# Altium footprint library HARTING SMD.PcbLib: 3 footprints
Each footprint in its own frame and in the unit in brackets; x right, y up, seen from the top. Pads: shape width x height; smd on the part's side, far side on the other; paste and mask are expansions set on the pad; w line width, h text height; cw(c..) or ccw(c..) is an arc to the next point about the centre after c.
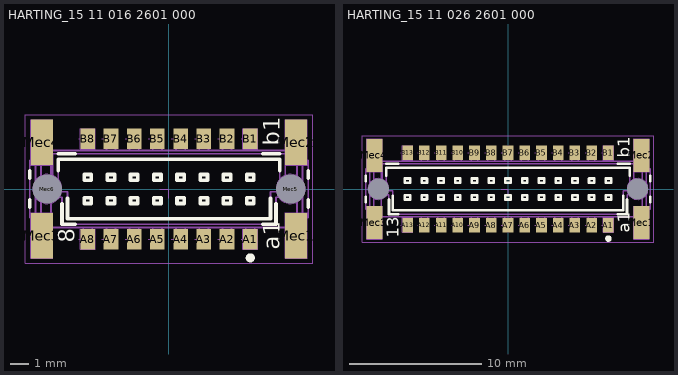
[diagram p0: the footprints below, top view; thin cyan lines are the x and y axes]

## HARTING_15 11 016 2601 000 [mm] "Har-flex Straight Male Connector, 16 Contacts, Pitch 1.27mm"
height 6.6
pads (22):
  rect 0.8x1.1 smd: A1(4.445,-2.75) A2(3.175,-2.75) A3(1.905,-2.75) A4(0.635,-2.75) A5(-0.635,-2.75) A6(-1.905,-2.75) A7(-3.175,-2.75) A8(-4.445,-2.75) B1(4.445,2.75) B2(3.175,2.75) B3(1.905,2.75) B4(0.635,2.75) B5(-0.635,2.75) B6(-1.905,2.75) B7(-3.175,2.75) B8(-4.445,2.75)
  rect 1.2x2.5 smd: Mec1(6.955,-2.55) Mec2(6.955,2.55) Mec3(-6.955,-2.55) Mec4(-6.955,2.55)
  round 1 hole 1.6 unplated mask+0.3: Mec5(6.655,0) Mec6(-6.655,0)
Top Overlay:
  circle w0.25: c4.445,-3.766 r0.125
  lines w0.2: -7.62,-1 -7.62,-0.6 ; -7.62,0.6 -7.62,1 ; -6.055,1 -6.055,1.625 6.055,1.625 6.055,1 ; -6.055,1.925 -5.145,1.925 ; -5.855,-0.8 -5.855,-1.925 -5.145,-1.925 ; -5.555,-0.5 -5.555,-1.625 5.555,-1.625 5.555,-0.5 ; 5.145,-1.925 5.855,-1.925 5.855,-0.8 ; 5.145,1.925 6.055,1.925 ; 7.62,-1 7.62,-0.6 ; 7.62,0.6 7.62,1 ; -4.645,-0.795 -4.245,-0.795 -4.245,-0.475 -4.645,-0.475 -4.645,-0.795 ; -4.645,0.475 -4.245,0.475 -4.245,0.795 -4.645,0.795 -4.645,0.475 ; -3.375,-0.795 -2.975,-0.795 -2.975,-0.475 -3.375,-0.475 -3.375,-0.795 ; -3.375,0.475 -2.975,0.475 -2.975,0.795 -3.375,0.795 -3.375,0.475 ; -2.105,-0.795 -1.705,-0.795 -1.705,-0.475 -2.105,-0.475 -2.105,-0.795 ; -2.105,0.475 -1.705,0.475 -1.705,0.795 -2.105,0.795 -2.105,0.475 ; -0.835,-0.795 -0.435,-0.795 -0.435,-0.475 -0.835,-0.475 -0.835,-0.795 ; -0.835,0.475 -0.435,0.475 -0.435,0.795 -0.835,0.795 -0.835,0.475 ; 0.435,-0.795 0.835,-0.795 0.835,-0.475 0.435,-0.475 0.435,-0.795 ; 0.435,0.475 0.835,0.475 0.835,0.795 0.435,0.795 0.435,0.475 ; 1.705,-0.795 2.105,-0.795 2.105,-0.475 1.705,-0.475 1.705,-0.795 ; 1.705,0.475 2.105,0.475 2.105,0.795 1.705,0.795 1.705,0.475 ; 2.975,-0.795 3.375,-0.795 3.375,-0.475 2.975,-0.475 2.975,-0.795 ; 2.975,0.475 3.375,0.475 3.375,0.795 2.975,0.795 2.975,0.475 ; 4.245,-0.795 4.645,-0.795 4.645,-0.475 4.245,-0.475 4.245,-0.795 ; 4.245,0.475 4.645,0.475 4.645,0.795 4.245,0.795 4.245,0.475
  text "8" at -5.15,-2.95 h0.9
  text "b1" at 6.055,2.375 h0.9
  text "a1" at 6.055,-3.325 h0.9
Mechanical 8:
  circle w0.05: c6.655,0 r0.8
  circle w0.05: c-6.655,0 r0.8
  lines w0.05: -7.455,-2.55 -6.955,-2.55 -6.955,-3.05 ; -7.455,2.55 -6.955,2.55 -6.955,2.05 ; -7.155,0 -6.655,0 -6.655,-0.5 ; -4.945,-2.75 -4.445,-2.75 -4.445,-3.25 ; -4.945,2.75 -4.445,2.75 -4.445,2.25 ; -3.675,-2.75 -3.175,-2.75 -3.175,-3.25 ; -3.675,2.75 -3.175,2.75 -3.175,2.25 ; -2.405,-2.75 -1.905,-2.75 -1.905,-3.25 ; -2.405,2.75 -1.905,2.75 -1.905,2.25 ; -1.135,-2.75 -0.635,-2.75 -0.635,-3.25 ; -1.135,2.75 -0.635,2.75 -0.635,2.25 ; -0.5,0 0,0 0,-0.5 ; 0.135,-2.75 0.635,-2.75 0.635,-3.25 ; 0.135,2.75 0.635,2.75 0.635,2.25 ; 1.405,-2.75 1.905,-2.75 1.905,-3.25 ; 1.405,2.75 1.905,2.75 1.905,2.25 ; 2.675,-2.75 3.175,-2.75 3.175,-3.25 ; 2.675,2.75 3.175,2.75 3.175,2.25 ; 3.945,-2.75 4.445,-2.75 4.445,-3.25 ; 3.945,2.75 4.445,2.75 4.445,2.25 ; 6.155,0 6.655,0 6.655,-0.5 ; 6.955,-3.05 6.955,-2.55 7.455,-2.55 ; 6.955,2.05 6.955,2.55 7.455,2.55 ; -7.555,-3.8 -6.355,-3.8 -6.355,-1.3 -7.555,-1.3 -7.555,-3.8 ; -7.555,1.3 -6.355,1.3 -6.355,3.8 -7.555,3.8 -7.555,1.3 ; -4.845,-3.3 -4.045,-3.3 -4.045,-2.2 -4.845,-2.2 -4.845,-3.3 ; -4.845,2.2 -4.045,2.2 -4.045,3.3 -4.845,3.3 -4.845,2.2 ; 4.045,-3.3 4.845,-3.3 4.845,-2.2 4.045,-2.2 4.045,-3.3 ; 4.045,2.2 4.845,2.2 4.845,3.3 4.045,3.3 4.045,2.2 ; 6.355,-3.8 7.555,-3.8 7.555,-1.3 6.355,-1.3 6.355,-3.8 ; 6.355,1.3 7.555,1.3 7.555,3.8 6.355,3.8 6.355,1.3
Mechanical 14:
  drawing of 175 lines, arcs and shapes, not listed
  text "8" at -5.15,-2.95 h0.9
  text "b1" at 6.055,2.375 h0.9
  text "a1" at 6.055,-3.325 h0.9
Mechanical 15:
  lines w0.05: -7.87,-4.05 7.87,-4.05 7.87,4.05 -7.87,4.05 -7.87,-4.05
3D body "HARTING_15 11 016 2601 000.stp": height 6.63, standoff -0.95, extent -7.62,-3.7 7.62,3.7

## HARTING_15 11 026 2601 000 [mm] "Har-flex Straight Male Connector, 26 Contacts, Pitch 1.27mm"
height 6.6
pads (32):
  rect 0.8x1.1 smd: A1(7.62,-2.75) A2(6.35,-2.75) A3(5.08,-2.75) A4(3.81,-2.75) A5(2.54,-2.75) A6(1.27,-2.75) A7(0,-2.75) A8(-1.27,-2.75) A9(-2.54,-2.75) A10(-3.81,-2.75) A11(-5.08,-2.75) A12(-6.35,-2.75) A13(-7.62,-2.75) B1(7.62,2.75) B2(6.35,2.75) B3(5.08,2.75) B4(3.81,2.75) B5(2.54,2.75) B6(1.27,2.75) B7(0,2.75) B8(-1.27,2.75) B9(-2.54,2.75) B10(-3.81,2.75) B11(-5.08,2.75) B12(-6.35,2.75) B13(-7.62,2.75)
  rect 1.2x2.5 smd: Mec1(10.13,-2.55) Mec2(10.13,2.55) Mec3(-10.13,-2.55) Mec4(-10.13,2.55)
  round 1 hole 1.6 unplated mask+0.3: Mec5(9.83,0) Mec6(-9.83,0)
Top Overlay:
  circle w0.25: c7.62,-3.766 r0.125
  lines w0.2: -10.795,-1 -10.795,-0.6 ; -10.795,0.6 -10.795,1 ; -9.23,1 -9.23,1.625 9.23,1.625 9.23,1 ; -9.23,1.925 -8.32,1.925 ; -9.03,-0.8 -9.03,-1.925 -8.32,-1.925 ; -8.73,-0.5 -8.73,-1.625 8.73,-1.625 8.73,-0.5 ; 8.32,-1.925 9.03,-1.925 9.03,-0.8 ; 8.32,1.925 9.23,1.925 ; 10.795,-1 10.795,-0.6 ; 10.795,0.6 10.795,1 ; -7.82,-0.795 -7.42,-0.795 -7.42,-0.475 -7.82,-0.475 -7.82,-0.795 ; -7.82,0.475 -7.42,0.475 -7.42,0.795 -7.82,0.795 -7.82,0.475 ; -6.55,-0.795 -6.15,-0.795 -6.15,-0.475 -6.55,-0.475 -6.55,-0.795 ; -6.55,0.475 -6.15,0.475 -6.15,0.795 -6.55,0.795 -6.55,0.475 ; -5.28,-0.795 -4.88,-0.795 -4.88,-0.475 -5.28,-0.475 -5.28,-0.795 ; -5.28,0.475 -4.88,0.475 -4.88,0.795 -5.28,0.795 -5.28,0.475 ; -4.01,-0.795 -3.61,-0.795 -3.61,-0.475 -4.01,-0.475 -4.01,-0.795 ; -4.01,0.475 -3.61,0.475 -3.61,0.795 -4.01,0.795 -4.01,0.475 ; -2.74,-0.795 -2.34,-0.795 -2.34,-0.475 -2.74,-0.475 -2.74,-0.795 ; -2.74,0.475 -2.34,0.475 -2.34,0.795 -2.74,0.795 -2.74,0.475 ; -1.47,-0.795 -1.07,-0.795 -1.07,-0.475 -1.47,-0.475 -1.47,-0.795 ; -1.47,0.475 -1.07,0.475 -1.07,0.795 -1.47,0.795 -1.47,0.475 ; -0.2,-0.795 0.2,-0.795 0.2,-0.475 -0.2,-0.475 -0.2,-0.795 ; -0.2,0.475 0.2,0.475 0.2,0.795 -0.2,0.795 -0.2,0.475 ; 1.07,-0.795 1.47,-0.795 1.47,-0.475 1.07,-0.475 1.07,-0.795 ; 1.07,0.475 1.47,0.475 1.47,0.795 1.07,0.795 1.07,0.475 ; 2.34,-0.795 2.74,-0.795 2.74,-0.475 2.34,-0.475 2.34,-0.795 ; 2.34,0.475 2.74,0.475 2.74,0.795 2.34,0.795 2.34,0.475 ; 3.61,-0.795 4.01,-0.795 4.01,-0.475 3.61,-0.475 3.61,-0.795 ; 3.61,0.475 4.01,0.475 4.01,0.795 3.61,0.795 3.61,0.475 ; 4.88,-0.795 5.28,-0.795 5.28,-0.475 4.88,-0.475 4.88,-0.795 ; 4.88,0.475 5.28,0.475 5.28,0.795 4.88,0.795 4.88,0.475 ; 6.15,-0.795 6.55,-0.795 6.55,-0.475 6.15,-0.475 6.15,-0.795 ; 6.15,0.475 6.55,0.475 6.55,0.795 6.15,0.795 6.15,0.475 ; 7.42,-0.795 7.82,-0.795 7.82,-0.475 7.42,-0.475 7.42,-0.795 ; 7.42,0.475 7.82,0.475 7.82,0.795 7.42,0.795 7.42,0.475
  text "13" at -8.305,-3.7 h0.9
  text "b1" at 9.23,2.375 h0.9
  text "a1" at 9.23,-3.325 h0.9
Mechanical 8:
  circle w0.05: c9.83,0 r0.8
  circle w0.05: c-9.83,0 r0.8
  lines w0.05: -10.63,-2.55 -10.13,-2.55 -10.13,-3.05 ; -10.63,2.55 -10.13,2.55 -10.13,2.05 ; -10.33,0 -9.83,0 -9.83,-0.5 ; -8.12,-2.75 -7.62,-2.75 -7.62,-3.25 ; -8.12,2.75 -7.62,2.75 -7.62,2.25 ; -6.85,-2.75 -6.35,-2.75 -6.35,-3.25 ; -6.85,2.75 -6.35,2.75 -6.35,2.25 ; -5.58,-2.75 -5.08,-2.75 -5.08,-3.25 ; -5.58,2.75 -5.08,2.75 -5.08,2.25 ; -4.31,-2.75 -3.81,-2.75 -3.81,-3.25 ; -4.31,2.75 -3.81,2.75 -3.81,2.25 ; -3.04,-2.75 -2.54,-2.75 -2.54,-3.25 ; -3.04,2.75 -2.54,2.75 -2.54,2.25 ; -1.77,-2.75 -1.27,-2.75 -1.27,-3.25 ; -1.77,2.75 -1.27,2.75 -1.27,2.25 ; -0.5,-2.75 0,-2.75 0,-3.25 ; -0.5,0 0,0 0,-0.5 ; -0.5,2.75 0,2.75 0,2.25 ; 0.77,-2.75 1.27,-2.75 1.27,-3.25 ; 0.77,2.75 1.27,2.75 1.27,2.25 ; 2.04,-2.75 2.54,-2.75 2.54,-3.25 ; 2.04,2.75 2.54,2.75 2.54,2.25 ; 3.31,-2.75 3.81,-2.75 3.81,-3.25 ; 3.31,2.75 3.81,2.75 3.81,2.25 ; 4.58,-2.75 5.08,-2.75 5.08,-3.25 ; 4.58,2.75 5.08,2.75 5.08,2.25 ; 5.85,-2.75 6.35,-2.75 6.35,-3.25 ; 5.85,2.75 6.35,2.75 6.35,2.25 ; 7.12,-2.75 7.62,-2.75 7.62,-3.25 ; 7.12,2.75 7.62,2.75 7.62,2.25 ; 9.33,0 9.83,0 9.83,-0.5 ; 10.13,-3.05 10.13,-2.55 10.63,-2.55 ; 10.13,2.05 10.13,2.55 10.63,2.55 ; -10.73,-3.8 -9.53,-3.8 -9.53,-1.3 -10.73,-1.3 -10.73,-3.8 ; -10.73,1.3 -9.53,1.3 -9.53,3.8 -10.73,3.8 -10.73,1.3 ; -8.02,-3.3 -7.22,-3.3 -7.22,-2.2 -8.02,-2.2 -8.02,-3.3 ; -8.02,2.2 -7.22,2.2 -7.22,3.3 -8.02,3.3 -8.02,2.2 ; 7.22,-3.3 8.02,-3.3 8.02,-2.2 7.22,-2.2 7.22,-3.3 ; 7.22,2.2 8.02,2.2 8.02,3.3 7.22,3.3 7.22,2.2 ; 9.53,-3.8 10.73,-3.8 10.73,-1.3 9.53,-1.3 9.53,-3.8 ; 9.53,1.3 10.73,1.3 10.73,3.8 9.53,3.8 9.53,1.3
Mechanical 14:
  drawing of 245 lines, arcs and shapes, not listed
  text "b1" at 9.23,2.375 h0.9
  text "a1" at 9.23,-3.325 h0.9
  text "13" at -8.305,-3.7 h0.9
Mechanical 15:
  lines w0.05: -11.045,-4.05 11.045,-4.05 11.045,4.05 -11.045,4.05 -11.045,-4.05
3D body "HARTING_15 11 026 2601 000.stp": height 6.63, standoff -0.95, extent -10.795,-3.7 10.795,3.7

## HARTING_XX XX XXX XXXX [mm]